# Altium footprint library Connector_FFC-FPC.PcbLib: 372 footprints (part 9 of 24)
Each footprint in its own frame and in the unit in brackets; x right, y up, seen from the top. Pads: shape width x height; smd on the part's side, far side on the other; paste and mask are expansions set on the pad; w line width, h text height; cw(c..) or ccw(c..) is an arc to the next point about the centre after c.
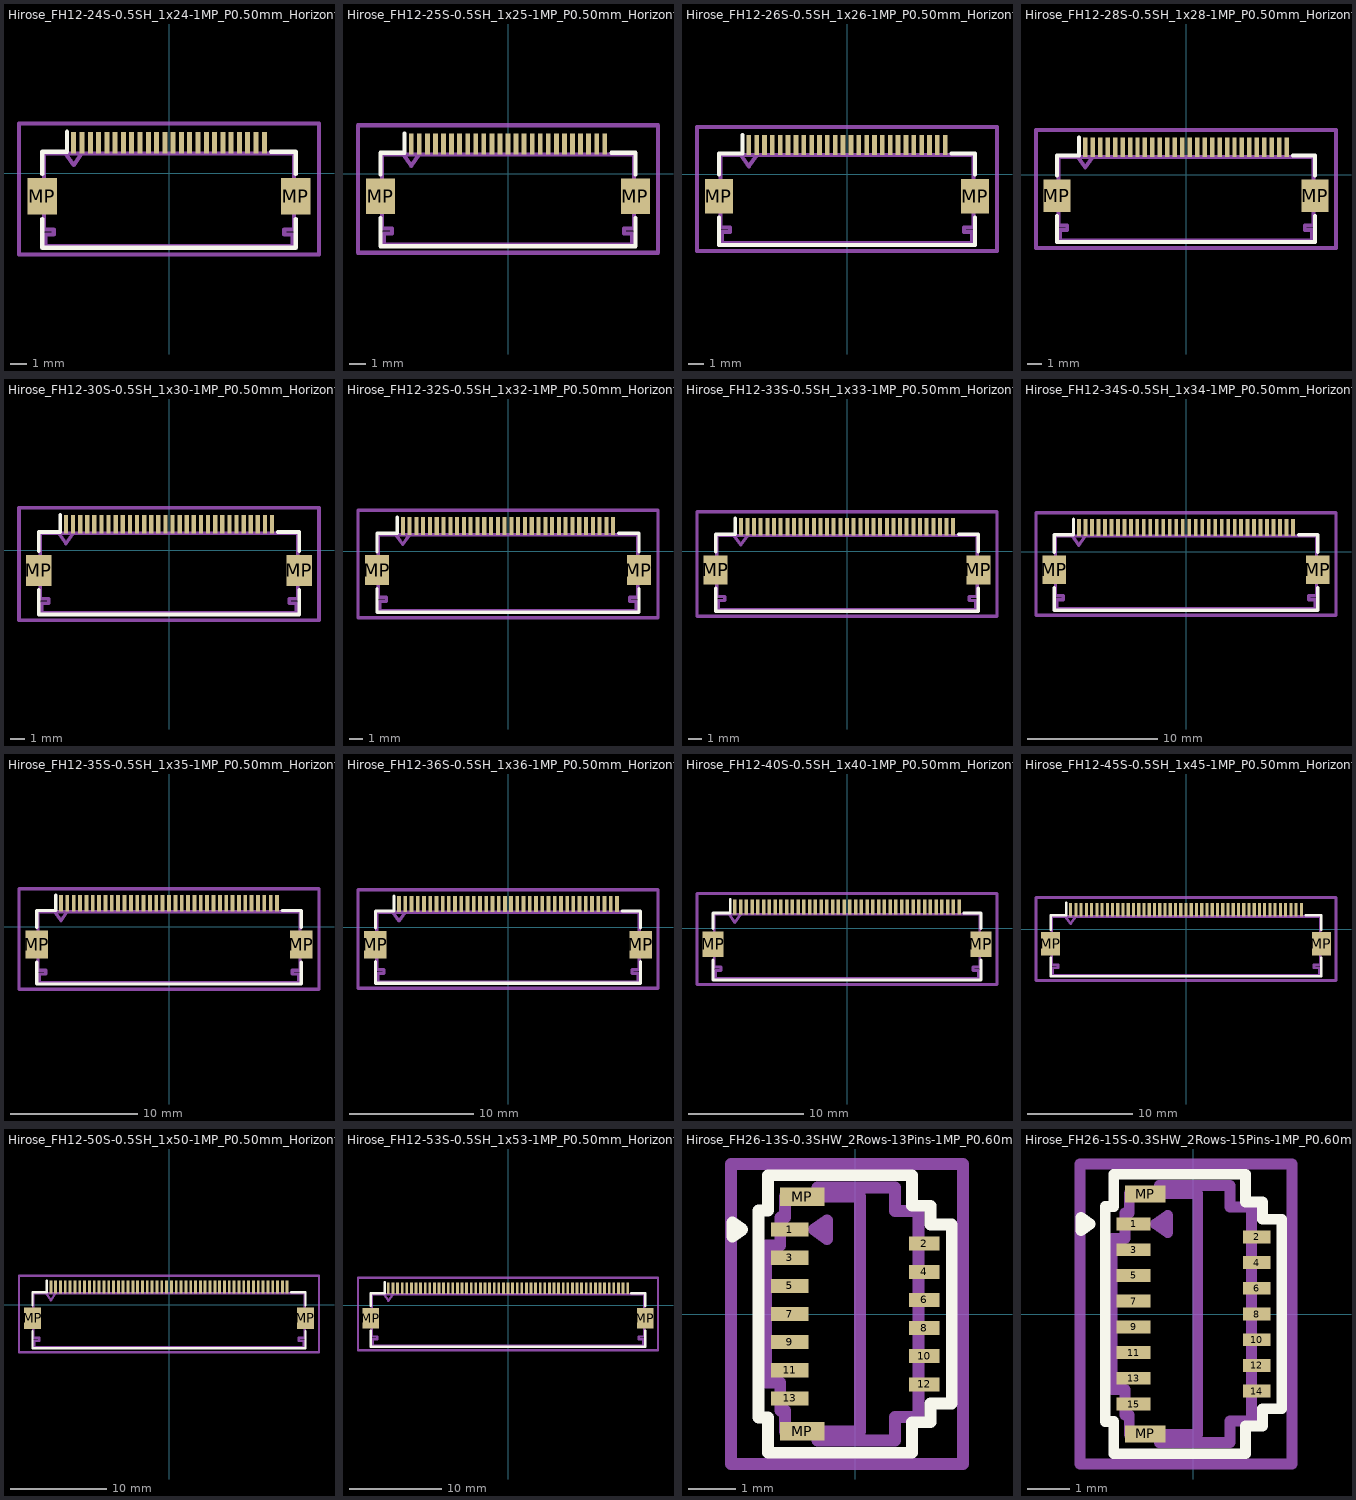
[diagram p8: the footprints below, top view; thin cyan lines are the x and y axes]

## Hirose_FH12-24S-0.5SH_1x24-1MP_P0.50mm_Horizontal [mm]
pads (26):
  rect 0.3x1.3 smd: 1(-5.75,1.85) 2(-5.25,1.85) 3(-4.75,1.85) 4(-4.25,1.85) 5(-3.75,1.85) 6(-3.25,1.85) 7(-2.75,1.85) 8(-2.25,1.85) 9(-1.75,1.85) 10(-1.25,1.85) 11(-0.75,1.85) 12(-0.25,1.85) 13(0.25,1.85) 14(0.75,1.85) 15(1.25,1.85) 16(1.75,1.85) 17(2.25,1.85) 18(2.75,1.85) 19(3.25,1.85) 20(3.75,1.85) 21(4.25,1.85) 22(4.75,1.85) 23(5.25,1.85) 24(5.75,1.85)
  rect 1.8x2.2 smd: MP(-7.65,-1.4) MP(7.65,-1.4)
F.SilkS:
  lines w0.254: -7.65,-2.76 -7.65,-4.5 7.65,-4.5 7.65,-2.76 ; -7.65,-0.04 -7.65,1.3 -6.16,1.3 -6.16,2.5 ; 6.16,1.3 7.65,1.3 7.65,-0.04
Top Assembly:
  lines w0.254: -6.25,1.2 -5.75,0.493 -5.25,1.2 ; -7.55,-3.4 -6.95,-3.4 -6.95,-3.7 -7.45,-3.7 -7.45,-4.4 0,-4.4 7.45,-4.4 7.45,-3.7 6.95,-3.7 6.95,-3.4 7.55,-3.4 7.55,1.2 0,1.2 -7.55,1.2 -7.55,-3.4
  text "'.Designator'" at -4.047,-4.54 h1
Top Courtyard:
  lines w0.254: -9.05,-4.9 9.05,-4.9 9.05,3 -9.05,3 -9.05,-4.9
Top Designator:
  text ".Designator" at -7.618,-1.458 h1.52

## Hirose_FH12-25S-0.5SH_1x25-1MP_P0.50mm_Horizontal [mm]
pads (27):
  rect 0.3x1.3 smd: 1(-6,1.85) 2(-5.5,1.85) 3(-5,1.85) 4(-4.5,1.85) 5(-4,1.85) 6(-3.5,1.85) 7(-3,1.85) 8(-2.5,1.85) 9(-2,1.85) 10(-1.5,1.85) 11(-1,1.85) 12(-0.5,1.85) 13(0,1.85) 14(0.5,1.85) 15(1,1.85) 16(1.5,1.85) 17(2,1.85) 18(2.5,1.85) 19(3,1.85) 20(3.5,1.85) 21(4,1.85) 22(4.5,1.85) 23(5,1.85) 24(5.5,1.85) 25(6,1.85)
  rect 1.8x2.2 smd: MP(-7.9,-1.4) MP(7.9,-1.4)
F.SilkS:
  lines w0.254: -7.9,-2.76 -7.9,-4.5 7.9,-4.5 7.9,-2.76 ; -7.9,-0.04 -7.9,1.3 -6.41,1.3 -6.41,2.5 ; 6.41,1.3 7.9,1.3 7.9,-0.04
Top Assembly:
  lines w0.254: -6.5,1.2 -6,0.493 -5.5,1.2 ; -7.8,-3.4 -7.2,-3.4 -7.2,-3.7 -7.7,-3.7 -7.7,-4.4 0,-4.4 7.7,-4.4 7.7,-3.7 7.2,-3.7 7.2,-3.4 7.8,-3.4 7.8,1.2 0,1.2 -7.8,1.2 -7.8,-3.4
  text "'.Designator'" at -4.047,-4.54 h1
Top Courtyard:
  lines w0.254: -9.3,-4.9 9.3,-4.9 9.3,3 -9.3,3 -9.3,-4.9
Top Designator:
  text ".Designator" at -7.618,-1.458 h1.52

## Hirose_FH12-26S-0.5SH_1x26-1MP_P0.50mm_Horizontal [mm]
pads (28):
  rect 0.3x1.3 smd: 1(-6.25,1.85) 2(-5.75,1.85) 3(-5.25,1.85) 4(-4.75,1.85) 5(-4.25,1.85) 6(-3.75,1.85) 7(-3.25,1.85) 8(-2.75,1.85) 9(-2.25,1.85) 10(-1.75,1.85) 11(-1.25,1.85) 12(-0.75,1.85) 13(-0.25,1.85) 14(0.25,1.85) 15(0.75,1.85) 16(1.25,1.85) 17(1.75,1.85) 18(2.25,1.85) 19(2.75,1.85) 20(3.25,1.85) 21(3.75,1.85) 22(4.25,1.85) 23(4.75,1.85) 24(5.25,1.85) 25(5.75,1.85) 26(6.25,1.85)
  rect 1.8x2.2 smd: MP(-8.15,-1.4) MP(8.15,-1.4)
F.SilkS:
  lines w0.254: -8.15,-2.76 -8.15,-4.5 8.15,-4.5 8.15,-2.76 ; -8.15,-0.04 -8.15,1.3 -6.66,1.3 -6.66,2.5 ; 6.66,1.3 8.15,1.3 8.15,-0.04
Top Assembly:
  lines w0.254: -6.75,1.2 -6.25,0.493 -5.75,1.2 ; -8.05,-3.4 -7.45,-3.4 -7.45,-3.7 -7.95,-3.7 -7.95,-4.4 0,-4.4 7.95,-4.4 7.95,-3.7 7.45,-3.7 7.45,-3.4 8.05,-3.4 8.05,1.2 0,1.2 -8.05,1.2 -8.05,-3.4
  text "'.Designator'" at -4.047,-4.54 h1
Top Courtyard:
  lines w0.254: -9.55,-4.9 9.55,-4.9 9.55,3 -9.55,3 -9.55,-4.9
Top Designator:
  text ".Designator" at -7.618,-1.458 h1.52

## Hirose_FH12-28S-0.5SH_1x28-1MP_P0.50mm_Horizontal [mm]
pads (30):
  rect 0.3x1.3 smd: 1(-6.75,1.85) 2(-6.25,1.85) 3(-5.75,1.85) 4(-5.25,1.85) 5(-4.75,1.85) 6(-4.25,1.85) 7(-3.75,1.85) 8(-3.25,1.85) 9(-2.75,1.85) 10(-2.25,1.85) 11(-1.75,1.85) 12(-1.25,1.85) 13(-0.75,1.85) 14(-0.25,1.85) 15(0.25,1.85) 16(0.75,1.85) 17(1.25,1.85) 18(1.75,1.85) 19(2.25,1.85) 20(2.75,1.85) 21(3.25,1.85) 22(3.75,1.85) 23(4.25,1.85) 24(4.75,1.85) 25(5.25,1.85) 26(5.75,1.85) 27(6.25,1.85) 28(6.75,1.85)
  rect 1.8x2.2 smd: MP(-8.65,-1.4) MP(8.65,-1.4)
F.SilkS:
  lines w0.254: -8.65,-2.76 -8.65,-4.5 8.65,-4.5 8.65,-2.76 ; -8.65,-0.04 -8.65,1.3 -7.16,1.3 -7.16,2.5 ; 7.16,1.3 8.65,1.3 8.65,-0.04
Top Assembly:
  lines w0.254: -7.25,1.2 -6.75,0.493 -6.25,1.2 ; -8.55,-3.4 -7.95,-3.4 -7.95,-3.7 -8.45,-3.7 -8.45,-4.4 0,-4.4 8.45,-4.4 8.45,-3.7 7.95,-3.7 7.95,-3.4 8.55,-3.4 8.55,1.2 0,1.2 -8.55,1.2 -8.55,-3.4
  text "'.Designator'" at -4.047,-4.54 h1
Top Courtyard:
  lines w0.254: -10.05,-4.9 10.05,-4.9 10.05,3 -10.05,3 -10.05,-4.9
Top Designator:
  text ".Designator" at -7.618,-1.458 h1.52

## Hirose_FH12-30S-0.5SH_1x30-1MP_P0.50mm_Horizontal [mm]
pads (32):
  rect 0.3x1.3 smd: 1(-7.25,1.85) 2(-6.75,1.85) 3(-6.25,1.85) 4(-5.75,1.85) 5(-5.25,1.85) 6(-4.75,1.85) 7(-4.25,1.85) 8(-3.75,1.85) 9(-3.25,1.85) 10(-2.75,1.85) 11(-2.25,1.85) 12(-1.75,1.85) 13(-1.25,1.85) 14(-0.75,1.85) 15(-0.25,1.85) 16(0.25,1.85) 17(0.75,1.85) 18(1.25,1.85) 19(1.75,1.85) 20(2.25,1.85) 21(2.75,1.85) 22(3.25,1.85) 23(3.75,1.85) 24(4.25,1.85) 25(4.75,1.85) 26(5.25,1.85) 27(5.75,1.85) 28(6.25,1.85) 29(6.75,1.85) 30(7.25,1.85)
  rect 1.8x2.2 smd: MP(-9.15,-1.4) MP(9.15,-1.4)
F.SilkS:
  lines w0.254: -9.15,-2.76 -9.15,-4.5 9.15,-4.5 9.15,-2.76 ; -9.15,-0.04 -9.15,1.3 -7.66,1.3 -7.66,2.5 ; 7.66,1.3 9.15,1.3 9.15,-0.04
Top Assembly:
  lines w0.254: -7.75,1.2 -7.25,0.493 -6.75,1.2 ; -9.05,-3.4 -8.45,-3.4 -8.45,-3.7 -8.95,-3.7 -8.95,-4.4 0,-4.4 8.95,-4.4 8.95,-3.7 8.45,-3.7 8.45,-3.4 9.05,-3.4 9.05,1.2 0,1.2 -9.05,1.2 -9.05,-3.4
  text "'.Designator'" at -4.047,-4.54 h1
Top Courtyard:
  lines w0.254: -10.55,-4.9 10.55,-4.9 10.55,3 -10.55,3 -10.55,-4.9
Top Designator:
  text ".Designator" at -7.618,-1.458 h1.52

## Hirose_FH12-32S-0.5SH_1x32-1MP_P0.50mm_Horizontal [mm]
pads (34):
  rect 0.3x1.3 smd: 1(-7.75,1.85) 2(-7.25,1.85) 3(-6.75,1.85) 4(-6.25,1.85) 5(-5.75,1.85) 6(-5.25,1.85) 7(-4.75,1.85) 8(-4.25,1.85) 9(-3.75,1.85) 10(-3.25,1.85) 11(-2.75,1.85) 12(-2.25,1.85) 13(-1.75,1.85) 14(-1.25,1.85) 15(-0.75,1.85) 16(-0.25,1.85) 17(0.25,1.85) 18(0.75,1.85) 19(1.25,1.85) 20(1.75,1.85) 21(2.25,1.85) 22(2.75,1.85) 23(3.25,1.85) 24(3.75,1.85) 25(4.25,1.85) 26(4.75,1.85) 27(5.25,1.85) 28(5.75,1.85) 29(6.25,1.85) 30(6.75,1.85) 31(7.25,1.85) 32(7.75,1.85)
  rect 1.8x2.2 smd: MP(-9.65,-1.4) MP(9.65,-1.4)
F.SilkS:
  lines w0.254: -9.65,-2.76 -9.65,-4.5 9.65,-4.5 9.65,-2.76 ; -9.65,-0.04 -9.65,1.3 -8.16,1.3 -8.16,2.5 ; 8.16,1.3 9.65,1.3 9.65,-0.04
Top Assembly:
  lines w0.254: -8.25,1.2 -7.75,0.493 -7.25,1.2 ; -9.55,-3.4 -8.95,-3.4 -8.95,-3.7 -9.45,-3.7 -9.45,-4.4 0,-4.4 9.45,-4.4 9.45,-3.7 8.95,-3.7 8.95,-3.4 9.55,-3.4 9.55,1.2 0,1.2 -9.55,1.2 -9.55,-3.4
  text "'.Designator'" at -4.047,-4.54 h1
Top Courtyard:
  lines w0.254: -11.05,-4.9 11.05,-4.9 11.05,3 -11.05,3 -11.05,-4.9
Top Designator:
  text ".Designator" at -7.618,-1.458 h1.52

## Hirose_FH12-33S-0.5SH_1x33-1MP_P0.50mm_Horizontal [mm]
pads (35):
  rect 0.3x1.3 smd: 1(-8,1.85) 2(-7.5,1.85) 3(-7,1.85) 4(-6.5,1.85) 5(-6,1.85) 6(-5.5,1.85) 7(-5,1.85) 8(-4.5,1.85) 9(-4,1.85) 10(-3.5,1.85) 11(-3,1.85) 12(-2.5,1.85) 13(-2,1.85) 14(-1.5,1.85) 15(-1,1.85) 16(-0.5,1.85) 17(0,1.85) 18(0.5,1.85) 19(1,1.85) 20(1.5,1.85) 21(2,1.85) 22(2.5,1.85) 23(3,1.85) 24(3.5,1.85) 25(4,1.85) 26(4.5,1.85) 27(5,1.85) 28(5.5,1.85) 29(6,1.85) 30(6.5,1.85) 31(7,1.85) 32(7.5,1.85) 33(8,1.85)
  rect 1.8x2.2 smd: MP(-9.9,-1.4) MP(9.9,-1.4)
F.SilkS:
  lines w0.254: -9.9,-2.76 -9.9,-4.5 9.9,-4.5 9.9,-2.76 ; -9.9,-0.04 -9.9,1.3 -8.41,1.3 -8.41,2.5 ; 8.41,1.3 9.9,1.3 9.9,-0.04
Top Assembly:
  lines w0.254: -8.5,1.2 -8,0.493 -7.5,1.2 ; -9.8,-3.4 -9.2,-3.4 -9.2,-3.7 -9.7,-3.7 -9.7,-4.4 0,-4.4 9.7,-4.4 9.7,-3.7 9.2,-3.7 9.2,-3.4 9.8,-3.4 9.8,1.2 0,1.2 -9.8,1.2 -9.8,-3.4
  text "'.Designator'" at -4.047,-4.54 h1
Top Courtyard:
  lines w0.254: -11.3,-4.9 11.3,-4.9 11.3,3 -11.3,3 -11.3,-4.9
Top Designator:
  text ".Designator" at -7.618,-1.458 h1.52

## Hirose_FH12-34S-0.5SH_1x34-1MP_P0.50mm_Horizontal [mm]
pads (36):
  rect 0.3x1.3 smd: 1(-8.25,1.85) 2(-7.75,1.85) 3(-7.25,1.85) 4(-6.75,1.85) 5(-6.25,1.85) 6(-5.75,1.85) 7(-5.25,1.85) 8(-4.75,1.85) 9(-4.25,1.85) 10(-3.75,1.85) 11(-3.25,1.85) 12(-2.75,1.85) 13(-2.25,1.85) 14(-1.75,1.85) 15(-1.25,1.85) 16(-0.75,1.85) 17(-0.25,1.85) 18(0.25,1.85) 19(0.75,1.85) 20(1.25,1.85) 21(1.75,1.85) 22(2.25,1.85) 23(2.75,1.85) 24(3.25,1.85) 25(3.75,1.85) 26(4.25,1.85) 27(4.75,1.85) 28(5.25,1.85) 29(5.75,1.85) 30(6.25,1.85) 31(6.75,1.85) 32(7.25,1.85) 33(7.75,1.85) 34(8.25,1.85)
  rect 1.8x2.2 smd: MP(-10.15,-1.4) MP(10.15,-1.4)
F.SilkS:
  lines w0.254: -10.15,-2.76 -10.15,-4.5 10.15,-4.5 10.15,-2.76 ; -10.15,-0.04 -10.15,1.3 -8.66,1.3 -8.66,2.5 ; 8.66,1.3 10.15,1.3 10.15,-0.04
Top Assembly:
  lines w0.254: -8.75,1.2 -8.25,0.493 -7.75,1.2 ; -10.05,-3.4 -9.45,-3.4 -9.45,-3.7 -9.95,-3.7 -9.95,-4.4 0,-4.4 9.95,-4.4 9.95,-3.7 9.45,-3.7 9.45,-3.4 10.05,-3.4 10.05,1.2 0,1.2 -10.05,1.2 -10.05,-3.4
  text "'.Designator'" at -4.047,-4.54 h1
Top Courtyard:
  lines w0.254: -11.55,-4.9 11.55,-4.9 11.55,3 -11.55,3 -11.55,-4.9
Top Designator:
  text ".Designator" at -7.618,-1.458 h1.52

## Hirose_FH12-35S-0.5SH_1x35-1MP_P0.50mm_Horizontal [mm]
pads (37):
  rect 0.3x1.3 smd: 1(-8.5,1.85) 2(-8,1.85) 3(-7.5,1.85) 4(-7,1.85) 5(-6.5,1.85) 6(-6,1.85) 7(-5.5,1.85) 8(-5,1.85) 9(-4.5,1.85) 10(-4,1.85) 11(-3.5,1.85) 12(-3,1.85) 13(-2.5,1.85) 14(-2,1.85) 15(-1.5,1.85) 16(-1,1.85) 17(-0.5,1.85) 18(0,1.85) 19(0.5,1.85) 20(1,1.85) 21(1.5,1.85) 22(2,1.85) 23(2.5,1.85) 24(3,1.85) 25(3.5,1.85) 26(4,1.85) 27(4.5,1.85) 28(5,1.85) 29(5.5,1.85) 30(6,1.85) 31(6.5,1.85) 32(7,1.85) 33(7.5,1.85) 34(8,1.85) 35(8.5,1.85)
  rect 1.8x2.2 smd: MP(-10.4,-1.4) MP(10.4,-1.4)
F.SilkS:
  lines w0.254: -10.4,-2.76 -10.4,-4.5 10.4,-4.5 10.4,-2.76 ; -10.4,-0.04 -10.4,1.3 -8.91,1.3 -8.91,2.5 ; 8.91,1.3 10.4,1.3 10.4,-0.04
Top Assembly:
  lines w0.254: -9,1.2 -8.5,0.493 -8,1.2 ; -10.3,-3.4 -9.7,-3.4 -9.7,-3.7 -10.2,-3.7 -10.2,-4.4 0,-4.4 10.2,-4.4 10.2,-3.7 9.7,-3.7 9.7,-3.4 10.3,-3.4 10.3,1.2 0,1.2 -10.3,1.2 -10.3,-3.4
  text "'.Designator'" at -4.047,-4.54 h1
Top Courtyard:
  lines w0.254: -11.8,-4.9 11.8,-4.9 11.8,3 -11.8,3 -11.8,-4.9
Top Designator:
  text ".Designator" at -7.618,-1.458 h1.52

## Hirose_FH12-36S-0.5SH_1x36-1MP_P0.50mm_Horizontal [mm]
pads (38):
  rect 0.3x1.3 smd: 1(-8.75,1.85) 2(-8.25,1.85) 3(-7.75,1.85) 4(-7.25,1.85) 5(-6.75,1.85) 6(-6.25,1.85) 7(-5.75,1.85) 8(-5.25,1.85) 9(-4.75,1.85) 10(-4.25,1.85) 11(-3.75,1.85) 12(-3.25,1.85) 13(-2.75,1.85) 14(-2.25,1.85) 15(-1.75,1.85) 16(-1.25,1.85) 17(-0.75,1.85) 18(-0.25,1.85) 19(0.25,1.85) 20(0.75,1.85) 21(1.25,1.85) 22(1.75,1.85) 23(2.25,1.85) 24(2.75,1.85) 25(3.25,1.85) 26(3.75,1.85) 27(4.25,1.85) 28(4.75,1.85) 29(5.25,1.85) 30(5.75,1.85) 31(6.25,1.85) 32(6.75,1.85) 33(7.25,1.85) 34(7.75,1.85) 35(8.25,1.85) 36(8.75,1.85)
  rect 1.8x2.2 smd: MP(-10.65,-1.4) MP(10.65,-1.4)
F.SilkS:
  lines w0.254: -10.65,-2.76 -10.65,-4.5 10.65,-4.5 10.65,-2.76 ; -10.65,-0.04 -10.65,1.3 -9.16,1.3 -9.16,2.5 ; 9.16,1.3 10.65,1.3 10.65,-0.04
Top Assembly:
  lines w0.254: -9.25,1.2 -8.75,0.493 -8.25,1.2 ; -10.55,-3.4 -9.95,-3.4 -9.95,-3.7 -10.45,-3.7 -10.45,-4.4 0,-4.4 10.45,-4.4 10.45,-3.7 9.95,-3.7 9.95,-3.4 10.55,-3.4 10.55,1.2 0,1.2 -10.55,1.2 -10.55,-3.4
  text "'.Designator'" at -4.047,-4.54 h1
Top Courtyard:
  lines w0.254: -12.05,-4.9 12.05,-4.9 12.05,3 -12.05,3 -12.05,-4.9
Top Designator:
  text ".Designator" at -7.618,-1.458 h1.52

## Hirose_FH12-40S-0.5SH_1x40-1MP_P0.50mm_Horizontal [mm]
pads (42):
  rect 0.3x1.3 smd: 1(-9.75,1.85) 2(-9.25,1.85) 3(-8.75,1.85) 4(-8.25,1.85) 5(-7.75,1.85) 6(-7.25,1.85) 7(-6.75,1.85) 8(-6.25,1.85) 9(-5.75,1.85) 10(-5.25,1.85) 11(-4.75,1.85) 12(-4.25,1.85) 13(-3.75,1.85) 14(-3.25,1.85) 15(-2.75,1.85) 16(-2.25,1.85) 17(-1.75,1.85) 18(-1.25,1.85) 19(-0.75,1.85) 20(-0.25,1.85) 21(0.25,1.85) 22(0.75,1.85) 23(1.25,1.85) 24(1.75,1.85) 25(2.25,1.85) 26(2.75,1.85) 27(3.25,1.85) 28(3.75,1.85) 29(4.25,1.85) 30(4.75,1.85) 31(5.25,1.85) 32(5.75,1.85) 33(6.25,1.85) 34(6.75,1.85) 35(7.25,1.85) 36(7.75,1.85) 37(8.25,1.85) 38(8.75,1.85) 39(9.25,1.85) 40(9.75,1.85)
  rect 1.8x2.2 smd: MP(-11.65,-1.4) MP(11.65,-1.4)
F.SilkS:
  lines w0.254: -11.65,-2.76 -11.65,-4.5 11.65,-4.5 11.65,-2.76 ; -11.65,-0.04 -11.65,1.3 -10.16,1.3 -10.16,2.5 ; 10.16,1.3 11.65,1.3 11.65,-0.04
Top Assembly:
  lines w0.254: -10.25,1.2 -9.75,0.493 -9.25,1.2 ; -11.55,-3.4 -10.95,-3.4 -10.95,-3.7 -11.45,-3.7 -11.45,-4.4 0,-4.4 11.45,-4.4 11.45,-3.7 10.95,-3.7 10.95,-3.4 11.55,-3.4 11.55,1.2 0,1.2 -11.55,1.2 -11.55,-3.4
  text "'.Designator'" at -4.047,-4.54 h1
Top Courtyard:
  lines w0.254: -13.05,-4.9 13.05,-4.9 13.05,3 -13.05,3 -13.05,-4.9
Top Designator:
  text ".Designator" at -7.618,-1.458 h1.52

## Hirose_FH12-45S-0.5SH_1x45-1MP_P0.50mm_Horizontal [mm]
pads (47):
  rect 0.3x1.3 smd: 1(-11,1.85) 2(-10.5,1.85) 3(-10,1.85) 4(-9.5,1.85) 5(-9,1.85) 6(-8.5,1.85) 7(-8,1.85) 8(-7.5,1.85) 9(-7,1.85) 10(-6.5,1.85) 11(-6,1.85) 12(-5.5,1.85) 13(-5,1.85) 14(-4.5,1.85) 15(-4,1.85) 16(-3.5,1.85) 17(-3,1.85) 18(-2.5,1.85) 19(-2,1.85) 20(-1.5,1.85) 21(-1,1.85) 22(-0.5,1.85) 23(0,1.85) 24(0.5,1.85) 25(1,1.85) 26(1.5,1.85) 27(2,1.85) 28(2.5,1.85) 29(3,1.85) 30(3.5,1.85) 31(4,1.85) 32(4.5,1.85) 33(5,1.85) 34(5.5,1.85) 35(6,1.85) 36(6.5,1.85) 37(7,1.85) 38(7.5,1.85) 39(8,1.85) 40(8.5,1.85) 41(9,1.85) 42(9.5,1.85) 43(10,1.85) 44(10.5,1.85) 45(11,1.85)
  rect 1.8x2.2 smd: MP(-12.9,-1.4) MP(12.9,-1.4)
F.SilkS:
  lines w0.254: -12.9,-2.76 -12.9,-4.5 12.9,-4.5 12.9,-2.76 ; -12.9,-0.04 -12.9,1.3 -11.41,1.3 -11.41,2.5 ; 11.41,1.3 12.9,1.3 12.9,-0.04
Top Assembly:
  lines w0.254: -11.5,1.2 -11,0.493 -10.5,1.2 ; -12.8,-3.4 -12.2,-3.4 -12.2,-3.7 -12.7,-3.7 -12.7,-4.4 0,-4.4 12.7,-4.4 12.7,-3.7 12.2,-3.7 12.2,-3.4 12.8,-3.4 12.8,1.2 0,1.2 -12.8,1.2 -12.8,-3.4
  text "'.Designator'" at -4.047,-4.54 h1
Top Courtyard:
  lines w0.254: -14.3,-4.9 14.3,-4.9 14.3,3 -14.3,3 -14.3,-4.9
Top Designator:
  text ".Designator" at -7.618,-1.458 h1.52

## Hirose_FH12-50S-0.5SH_1x50-1MP_P0.50mm_Horizontal [mm]
pads (52):
  rect 0.3x1.3 smd: 1(-12.25,1.85) 2(-11.75,1.85) 3(-11.25,1.85) 4(-10.75,1.85) 5(-10.25,1.85) 6(-9.75,1.85) 7(-9.25,1.85) 8(-8.75,1.85) 9(-8.25,1.85) 10(-7.75,1.85) 11(-7.25,1.85) 12(-6.75,1.85) 13(-6.25,1.85) 14(-5.75,1.85) 15(-5.25,1.85) 16(-4.75,1.85) 17(-4.25,1.85) 18(-3.75,1.85) 19(-3.25,1.85) 20(-2.75,1.85) 21(-2.25,1.85) 22(-1.75,1.85) 23(-1.25,1.85) 24(-0.75,1.85) 25(-0.25,1.85) 26(0.25,1.85) 27(0.75,1.85) 28(1.25,1.85) 29(1.75,1.85) 30(2.25,1.85) 31(2.75,1.85) 32(3.25,1.85) 33(3.75,1.85) 34(4.25,1.85) 35(4.75,1.85) 36(5.25,1.85) 37(5.75,1.85) 38(6.25,1.85) 39(6.75,1.85) 40(7.25,1.85) 41(7.75,1.85) 42(8.25,1.85) 43(8.75,1.85) 44(9.25,1.85) 45(9.75,1.85) 46(10.25,1.85) 47(10.75,1.85) 48(11.25,1.85) 49(11.75,1.85) 50(12.25,1.85)
  rect 1.8x2.2 smd: MP(-14.15,-1.4) MP(14.15,-1.4)
F.SilkS:
  lines w0.254: -14.15,-2.76 -14.15,-4.5 14.15,-4.5 14.15,-2.76 ; -14.15,-0.04 -14.15,1.3 -12.66,1.3 -12.66,2.5 ; 12.66,1.3 14.15,1.3 14.15,-0.04
Top Assembly:
  lines w0.254: -12.75,1.2 -12.25,0.493 -11.75,1.2 ; -14.05,-3.4 -13.45,-3.4 -13.45,-3.7 -13.95,-3.7 -13.95,-4.4 0,-4.4 13.95,-4.4 13.95,-3.7 13.45,-3.7 13.45,-3.4 14.05,-3.4 14.05,1.2 0,1.2 -14.05,1.2 -14.05,-3.4
  text "'.Designator'" at -4.047,-4.54 h1
Top Courtyard:
  lines w0.254: -15.55,-4.9 15.55,-4.9 15.55,3 -15.55,3 -15.55,-4.9
Top Designator:
  text ".Designator" at -7.618,-1.458 h1.52

## Hirose_FH12-53S-0.5SH_1x53-1MP_P0.50mm_Horizontal [mm]
pads (55):
  rect 0.3x1.3 smd: 1(-13,1.85) 2(-12.5,1.85) 3(-12,1.85) 4(-11.5,1.85) 5(-11,1.85) 6(-10.5,1.85) 7(-10,1.85) 8(-9.5,1.85) 9(-9,1.85) 10(-8.5,1.85) 11(-8,1.85) 12(-7.5,1.85) 13(-7,1.85) 14(-6.5,1.85) 15(-6,1.85) 16(-5.5,1.85) 17(-5,1.85) 18(-4.5,1.85) 19(-4,1.85) 20(-3.5,1.85) 21(-3,1.85) 22(-2.5,1.85) 23(-2,1.85) 24(-1.5,1.85) 25(-1,1.85) 26(-0.5,1.85) 27(0,1.85) 28(0.5,1.85) 29(1,1.85) 30(1.5,1.85) 31(2,1.85) 32(2.5,1.85) 33(3,1.85) 34(3.5,1.85) 35(4,1.85) 36(4.5,1.85) 37(5,1.85) 38(5.5,1.85) 39(6,1.85) 40(6.5,1.85) 41(7,1.85) 42(7.5,1.85) 43(8,1.85) 44(8.5,1.85) 45(9,1.85) 46(9.5,1.85) 47(10,1.85) 48(10.5,1.85) 49(11,1.85) 50(11.5,1.85) 51(12,1.85) 52(12.5,1.85) 53(13,1.85)
  rect 1.8x2.2 smd: MP(-14.9,-1.4) MP(14.9,-1.4)
F.SilkS:
  lines w0.254: -14.9,-2.76 -14.9,-4.5 14.9,-4.5 14.9,-2.76 ; -14.9,-0.04 -14.9,1.3 -13.41,1.3 -13.41,2.5 ; 13.41,1.3 14.9,1.3 14.9,-0.04
Top Assembly:
  lines w0.254: -13.5,1.2 -13,0.493 -12.5,1.2 ; -14.8,-3.4 -14.2,-3.4 -14.2,-3.7 -14.7,-3.7 -14.7,-4.4 0,-4.4 14.7,-4.4 14.7,-3.7 14.2,-3.7 14.2,-3.4 14.8,-3.4 14.8,1.2 0,1.2 -14.8,1.2 -14.8,-3.4
  text "'.Designator'" at -4.047,-4.54 h1
Top Courtyard:
  lines w0.254: -16.3,-4.9 16.3,-4.9 16.3,3 -16.3,3 -16.3,-4.9
Top Designator:
  text ".Designator" at -7.618,-1.458 h1.52

## Hirose_FH26-13S-0.3SHW_2Rows-13Pins-1MP_P0.60mm_Horizontal [mm]
pads (15):
  rect 0.8x0.3 smd: 1(-1.4,1.8) 3(-1.4,1.2) 5(-1.4,0.6) 7(-1.4,0) 9(-1.4,-0.6) 11(-1.4,-1.2) 13(-1.4,-1.8)
  rect 0.65x0.3 smd: 2(1.475,1.5) 4(1.475,0.9) 6(1.475,0.3) 8(1.475,-0.3) 10(1.475,-0.9) 12(1.475,-1.5)
  rect 0.95x0.4 smd: MP(-1.125,-2.5) MP(-1.125,2.5)
F.SilkS:
  lines w0.254: -2.622,1.65 -2.41,1.8 -2.622,1.95 -2.622,1.65 ; -2.06,-2.21 -1.86,-2.21 -1.86,-2.96 1.21,-2.96 1.21,-2.31 1.61,-2.31 1.61,-1.91 2.06,-1.91 2.06,0 2.06,1.91 1.61,1.91 1.61,2.31 1.21,2.31 1.21,2.96 -1.86,2.96 -1.86,2.21 -2.06,2.21 -2.06,0 -2.06,-2.21
Top Assembly:
  lines w0.254: -0.8,-2.51 0.1,-2.51 0.1,0 0.1,2.51 -0.8,2.51 ; -0.8,-2.51 -0.8,-2.7 0.85,-2.7 0.85,-2.2 1.35,-2.2 1.35,0 1.35,2.2 0.85,2.2 0.85,2.7 -0.8,2.7 -0.8,2.51 ; -0.8,-2.51 -1.5,-2.51 -1.5,-2.06 -1.6,-2.06 -1.6,-1.46 -1.9,-1.46 -1.9,0 -1.9,1.46 -1.6,1.46 -1.6,2.06 -1.5,2.06 -1.5,2.51 -0.8,2.51 ; -0.883,1.8 -0.6,2 -0.6,1.6 -0.883,1.8
  text "'.Designator'" at 1.429,-3.276 h0.81
Top Courtyard:
  lines w0.254: -2.65,-3.2 2.3,-3.2 2.3,3.2 -2.65,3.2 -2.65,-3.2
Top Designator:
  text ".Designator" at -7.793,-0.543 h1.52

## Hirose_FH26-15S-0.3SHW_2Rows-15Pins-1MP_P0.60mm_Horizontal [mm]
pads (17):
  rect 0.8x0.3 smd: 1(-1.4,2.1) 3(-1.4,1.5) 5(-1.4,0.9) 7(-1.4,0.3) 9(-1.4,-0.3) 11(-1.4,-0.9) 13(-1.4,-1.5) 15(-1.4,-2.1)
  rect 0.65x0.3 smd: 2(1.475,1.8) 4(1.475,1.2) 6(1.475,0.6) 8(1.475,0) 10(1.475,-0.6) 12(1.475,-1.2) 14(1.475,-1.8)
  rect 0.95x0.4 smd: MP(-1.125,-2.8) MP(-1.125,2.8)
F.SilkS:
  lines w0.254: -2.622,1.95 -2.41,2.1 -2.622,2.25 -2.622,1.95 ; -2.06,-2.51 -1.86,-2.51 -1.86,-3.26 1.21,-3.26 1.21,-2.61 1.61,-2.61 1.61,-2.21 2.06,-2.21 2.06,0 2.06,2.21 1.61,2.21 1.61,2.61 1.21,2.61 1.21,3.26 -1.86,3.26 -1.86,2.51 -2.06,2.51 -2.06,0 -2.06,-2.51
Top Assembly:
  lines w0.254: -0.8,-2.81 0.1,-2.81 0.1,0 0.1,2.81 -0.8,2.81 ; -0.8,-2.81 -0.8,-3 0.85,-3 0.85,-2.5 1.35,-2.5 1.35,0 1.35,2.5 0.85,2.5 0.85,3 -0.8,3 -0.8,2.81 ; -0.8,-2.81 -1.5,-2.81 -1.5,-2.36 -1.6,-2.36 -1.6,-1.76 -1.9,-1.76 -1.9,0 -1.9,1.76 -1.6,1.76 -1.6,2.36 -1.5,2.36 -1.5,2.81 -0.8,2.81 ; -0.883,2.1 -0.6,2.3 -0.6,1.9 -0.883,2.1
  text "'.Designator'" at 1.429,-3.276 h0.81
Top Courtyard:
  lines w0.254: -2.65,-3.5 2.3,-3.5 2.3,3.5 -2.65,3.5 -2.65,-3.5
Top Designator:
  text ".Designator" at -7.793,-0.508 h1.52